# Altium footprint library Data_logger.PcbLib: 66 footprints (part 3 of 5)
Each footprint in its own frame and in the unit in brackets; x right, y up, seen from the top. Pads: shape width x height; smd on the part's side, far side on the other; paste and mask are expansions set on the pad; w line width, h text height; cw(c..) or ccw(c..) is an arc to the next point about the centre after c.
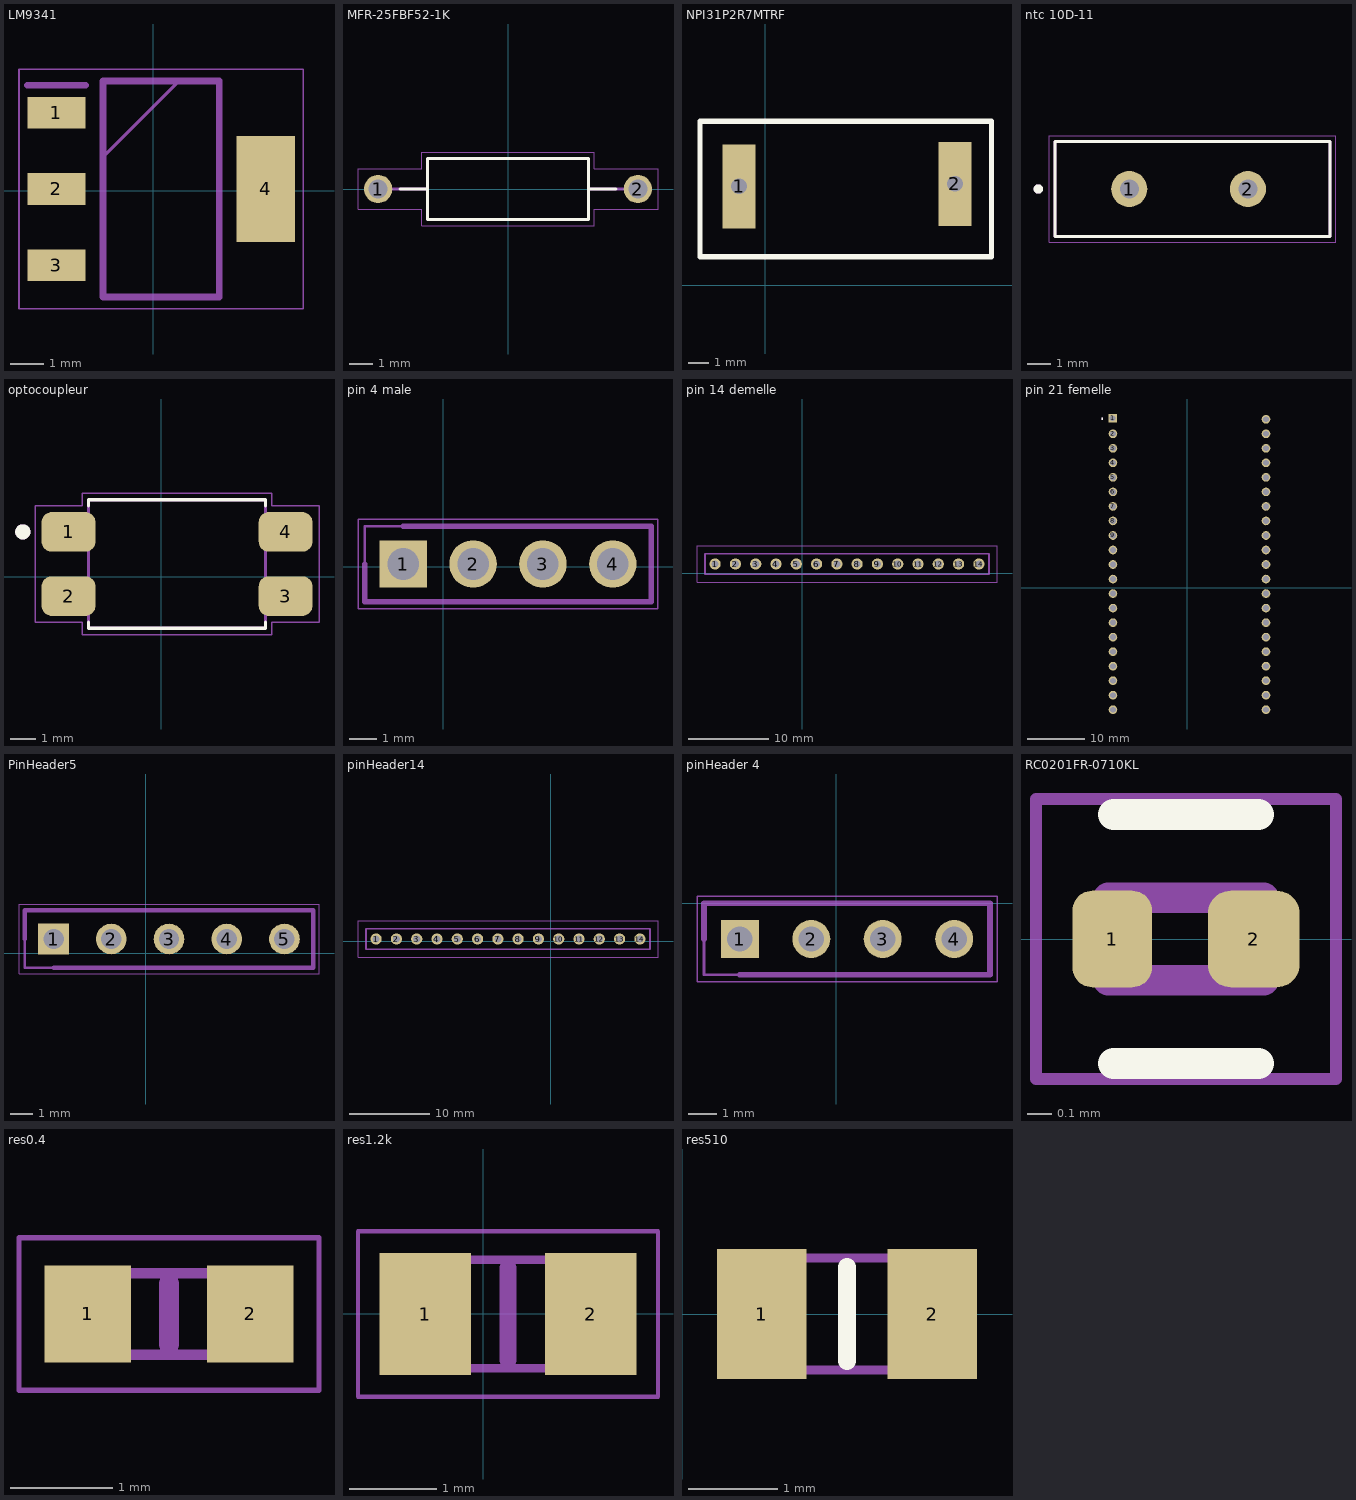
[diagram p2: the footprints below, top view; thin cyan lines are the x and y axes]

## LM9341 [mm]
pads (4):
  rect 1.75x0.95 smd: 1(-2.907,2.346) 2(-2.907,0.046) 3(-2.907,-2.254)
  rect 1.75x3.2 smd: 4(3.393,0.046)
Bottom Assembly:
  lines w0.05: -4.032,-3.554 -4.032,3.646 4.518,3.646 4.518,-3.554 -4.032,-3.554
  lines w0.1: -1.507,0.996 0.793,3.296 ; -1.507,-3.204 -1.507,3.296 1.993,3.296 1.993,-3.204 -1.507,-3.204
Mechanical 7:
  lines w0.2: -3.782,3.171 -2.032,3.171 ; -1.507,-3.204 -1.507,3.296 1.993,3.296 1.993,-3.204 -1.507,-3.204
3D body "LM3940IMPX-3.3_NOPB.stp": height 1.68, standoff 0, extent -3.511,-3.204 3.489,3.296

## MFR-25FBF52-1K [mm]
pads (2):
  round 1.2 hole 0.8: 1(-5.5,0) 2(5.5,0)
Top Overlay:
  lines w0.127: -4.58,0 -3.4,0 ; 4.58,0 3.4,0 ; -3.4,0 -3.4,-1.3 3.4,-1.3 3.4,0 ; -3.4,0 -3.4,1.3 3.4,1.3 3.4,0
Top 3D Body:
  lines w0.127: -4.9,0 -3.4,0 ; 4.9,0 3.4,0 ; -3.4,0 -3.4,-1.3 3.4,-1.3 3.4,0 ; -3.4,0 -3.4,1.3 3.4,1.3 3.4,0
Top Courtyard:
  lines w0.05: -6.35,-0.85 -6.35,0.85 -3.65,0.85 -3.65,1.55 3.65,1.55 3.65,0.85 6.35,0.85 6.35,-0.85 3.65,-0.85 3.65,-1.55 -3.65,-1.55 -3.65,-0.85 -6.35,-0.85
3D body "step_temp.STEP": height 2.6, standoff -25.53, extent -5.775,-1.3 5.775,1.3

## NPI31P2R7MTRF [mil]
pads (2):
  rect 62.99x161.42 hole 30 square: 1(-50,190) 2(365,195)
Top Overlay:
  lines w10: -125,55 435,55 435,315 -125,315 -125,55
3D body "IND_NPI31P2R2MTRF_NIC.step": height 252.01, standoff 0, extent -105,-5 415,385.24

## ntc 10D-11 [mil]
pads (2):
  round 60 hole 31.49: 1(-26925,1170) 2(-26728.15,1170)
Top Overlay:
  circle w7.87: c-27075.91,1170 r3.94
  lines w5: -27048.35,1091.26 -27048.35,1130.63 -27048.35,1209.37 -27048.35,1248.74 -26591.65,1248.74 -26591.65,1091.26 -27048.35,1091.26
Top 3D Body:
  circle w7.87: c-27075.91,1170 r3.94
  lines w5: -27048.35,1091.26 -26591.65,1091.26 -26591.65,1248.74 -27048.35,1248.74 -27048.35,1091.26
Top Courtyard:
  lines w1.97: -27058.19,1081.42 -26581.81,1081.42 -26581.81,1258.58 -27058.19,1258.58 -27058.19,1081.42

## optocoupleur [mm]
pads (4):
  rrect50% 2.13x1.57 smd: 1(-3.655,1.778) 2(-3.655,-0.762) 3(4.925,-0.762) 4(4.925,1.778)
Top Overlay:
  circle w0.3: c-5.465,1.778 r0.15
  lines w0.127: -2.865,-1.796 -2.865,-2.032 4.135,-2.032 4.135,-1.796 ; -2.865,2.812 -2.865,3.048 4.135,3.048 4.135,2.812
Top 3D Body:
  circle w0.3: c-5.465,1.778 r0.15
  lines w0.127: -2.865,-2.032 4.135,-2.032 4.135,3.048 -2.865,3.048 -2.865,-2.032
Top Courtyard:
  lines w0.05: -4.975,-1.802 -3.115,-1.802 -3.115,-2.282 4.385,-2.282 4.385,-1.802 6.245,-1.802 6.245,2.818 4.385,2.818 4.385,3.298 -3.115,3.298 -3.115,2.818 -4.975,2.818 -4.975,-1.802
3D body "step_temp.STEP": height 4, standoff 0, extent -4.24,-1.782 5.51,2.798

## PCBComponent_1 [mm]

## pin 4 male [mm]
pads (4):
  rect 1.725x1.725 / inner round 1.594 / far side rect 1.725x1.725 hole 1.15: 1(-1.451,0.108)
  round 1.725 hole 1.15: 2(1.089,0.108) 3(3.629,0.108) 4(6.169,0.108)
Bottom Assembly:
  lines w0.05: -3.096,-1.512 -3.096,1.728 7.814,1.728 7.814,-1.512 -3.096,-1.512
  lines w0.1: -2.846,-1.262 -2.846,1.478 7.564,1.478 7.564,-1.262 -2.846,-1.262
Mechanical 7:
  lines w0.2: -2.846,0.108 -2.846,-1.262 7.564,-1.262 7.564,1.478 -1.451,1.478
3D body "22-28-4042.stp": height 7.37, standoff -5.46, extent -2.594,-0.984 7.566,1.505

## pin 14 demelle [mm]
pads (14):
  round 1.4 hole 0.9: 1(-10.885,1.139) 2(-8.345,1.139) 3(-5.805,1.139) 4(-3.265,1.139) 5(-0.725,1.139) 6(1.815,1.139) 7(4.355,1.139) 8(6.895,1.139) 9(9.435,1.139) 10(11.975,1.139) 11(14.515,1.139) 12(17.055,1.139) 13(19.595,1.139) 14(22.135,1.139)
Bottom Assembly:
  lines w0.1: -13.155,-1.131 24.405,-1.131 24.405,3.409 -13.155,3.409 -13.155,-1.131
  lines w0.2: -12.155,-0.131 23.405,-0.131 23.405,2.409 -12.155,2.409 -12.155,-0.131
Mechanical 7:
  lines w0.1: -12.155,-0.131 23.405,-0.131 23.405,2.409 -12.155,2.409 -12.155,-0.131
3D body "90147-1114.stp": height 8.06, standoff -3.34, extent -12.282,-0.131 23.278,2.409

## pin 21 femelle [mm]
pads (42):
  rect 1.508x1.508 hole 1: 1(-13.025,29.673)
  round 1.508 hole 1: 2(-12.96,26.953) 3(-12.96,24.413) 4(-12.96,21.873) 5(-12.96,19.333) 6(-12.96,16.793) 7(-12.96,14.253) 8(-12.96,11.713) 9(-12.96,9.173) 10(-12.96,6.633) 11(-12.96,4.093) 12(-12.96,1.553) 13(-12.96,-0.987) 14(-12.96,-3.527) 15(-12.96,-6.067) 16(-12.96,-8.607) 17(-12.96,-11.147) 18(-12.96,-13.687) 19(-12.96,-16.227) 20(-12.96,-18.767) 21(-12.96,-21.307) 22(13.81,-21.307) 23(13.81,-18.767) 24(13.81,-16.227) 25(13.81,-13.687) 26(13.81,-11.147) 27(13.81,-8.607) 28(13.81,-6.067) 29(13.81,-3.527) 30(13.81,-0.987) 31(13.81,1.553) 32(13.81,4.093) 33(13.81,6.633) 34(13.81,9.173) 35(13.81,11.713) 36(13.81,14.253) 37(13.81,16.793) 38(13.81,19.333) 39(13.81,21.873) 40(13.81,24.413) 41(13.81,26.953) 42(13.81,29.493)
Top Overlay:
  circle w0.2: c-14.83,29.568 r0.1
Top 3D Body:
  circle w0.2: c-14.83,29.568 r0.1
3D body "CES-121-01-T-S.stp": height 5.08, standoff -3.25, extent 12.251,-22.665 15.299,30.675
3D body "CES-121-01-T-S.stp": height 5.08, standoff -3.25, extent -14.423,-22.575 -11.375,30.765

## PinHeader5 [mm]
pads (5):
  rect 1.35x1.35 / inner round 1.247 / far side rect 1.35x1.35 hole 0.9: 1(-4.064,0.635)
  round 1.35 hole 0.9: 2(-1.524,0.635) 3(1.016,0.635) 4(3.556,0.635) 5(6.096,0.635)
Bottom Assembly:
  lines w0.05: -5.584,-0.885 7.616,-0.885 7.616,2.155 -5.584,2.155 -5.584,-0.885
  lines w0.1: -5.334,-0.635 7.366,-0.635 7.366,1.905 -5.334,1.905 -5.334,-0.635
Mechanical 7:
  lines w0.2: -5.334,0.635 -5.334,1.905 7.366,1.905 7.366,-0.635 -4.064,-0.635
3D body "90147-1105.stp": height 8.57, standoff -2.83, extent -5.334,-0.762 7.366,1.778

## pinHeader14 [mil]
pads (14):
  round 55.12 hole 35.43: 1(-860,10) 2(-760,10) 3(-660,10) 4(-560,10) 5(-460,10) 6(-360,10) 7(-260,10) 8(-160,10) 9(-60,10) 10(40,10) 11(140,10) 12(240,10) 13(340,10) 14(440,10)
Bottom Assembly:
  lines w3.94: -949.37,-79.37 529.37,-79.37 529.37,99.37 -949.37,99.37 -949.37,-79.37
  lines w7.87: -910,-40 490,-40 490,60 -910,60 -910,-40
Mechanical 7:
  lines w3.94: -910,-40 490,-40 490,60 -910,60 -910,-40
3D body "90147-1114.stp": height 364.17, standoff -84.65, extent -910,-35 490,65

## pinHeader 4 [mm]
pads (4):
  rect 1.35x1.35 / inner round 1.247 / far side rect 1.35x1.35 hole 0.9: 1(-3.429,-1.27)
  round 1.35 hole 0.9: 2(-0.889,-1.27) 3(1.651,-1.27) 4(4.191,-1.27)
Bottom Assembly:
  lines w0.05: -4.949,-2.79 5.711,-2.79 5.711,0.25 -4.949,0.25 -4.949,-2.79
  lines w0.1: -4.699,-2.54 5.461,-2.54 5.461,0 -4.699,0 -4.699,-2.54
Mechanical 7:
  lines w0.2: -4.699,-1.27 -4.699,0 5.461,0 5.461,-2.54 -3.429,-2.54
3D body "90147-1104.stp": height 8.31, standoff -3.09, extent -4.699,-2.667 5.461,-0.127

## RC0201FR-0710KL [mm]
pads (2):
  rrect50% 0.33x0.4 smd: 1(-1.829,0)
  rrect50% 0.38x0.4 smd: 2(-1.244,0)
Top Overlay:
  lines w0.127: -1.824,-0.515 -1.224,-0.515 ; -1.824,0.515 -1.224,0.515
Top 3D Body:
  lines w0.127: -1.844,-0.17 -1.844,0.17 -1.204,0.17 -1.204,-0.17 -1.844,-0.17
Top Courtyard:
  lines w0.05: -2.144,-0.579 -2.144,0.579 -0.904,0.579 -0.904,-0.579 -2.144,-0.579
3D body "RC0201FR-0710KL--3DModel-STEP-510211.STEP": height 0.26, standoff 0, extent -1.824,-0.15 -1.224,0.15

## res0.4 [mm]
pads (2):
  rect 0.85x0.95 smd: 1(55.877,6.054) 2(57.477,6.054)
Bottom Assembly:
  lines w0.05: 55.202,5.304 58.152,5.304 58.152,6.804 55.202,6.804 55.202,5.304
  lines w0.1: 55.877,5.654 55.877,6.454 57.477,6.454 57.477,5.654 55.877,5.654
Mechanical 7:
  lines w0.2: 56.677,5.754 56.677,6.354
3D body "WW06PR402FTL.stp": height 0.6, standoff 0, extent 55.877,5.654 57.477,6.454

## res1.2k [mm]
pads (2):
  rect 1.05x1.4 smd: 1(-0.665,-0.002) 2(1.235,-0.002)
Bottom Assembly:
  lines w0.05: -1.44,-0.952 2.01,-0.952 2.01,0.948 -1.44,0.948 -1.44,-0.952
  lines w0.1: -0.715,-0.627 1.285,-0.627 1.285,0.623 -0.715,0.623 -0.715,-0.627
Mechanical 7:
  lines w0.2: 0.285,-0.527 0.285,0.523
3D body "ERJ-S06F1201V.stp": height 0.6, standoff 0, extent -0.715,-0.627 1.285,0.623

## res510 [mm]
pads (2):
  rect 1x1.45 smd: 1(0.889,0) 2(2.789,0)
Top Overlay:
  lines w0.2: 1.839,-0.525 1.839,0.525
Top Courtyard:
  lines w0.1: 0.839,-0.625 2.839,-0.625 2.839,0.625 0.839,0.625 0.839,-0.625
3D body "CRCW0805510RFKEAHP.stp": height 0.6, standoff 0, extent 0.905,-0.625 2.905,0.625